# Altium footprint library r2512.PcbLib: 1 footprints
Each footprint in its own frame and in the unit in brackets; x right, y up, seen from the top. Pads: shape width x height; smd on the part's side, far side on the other; paste and mask are expansions set on the pad; w line width, h text height; cw(c..) or ccw(c..) is an arc to the next point about the centre after c.
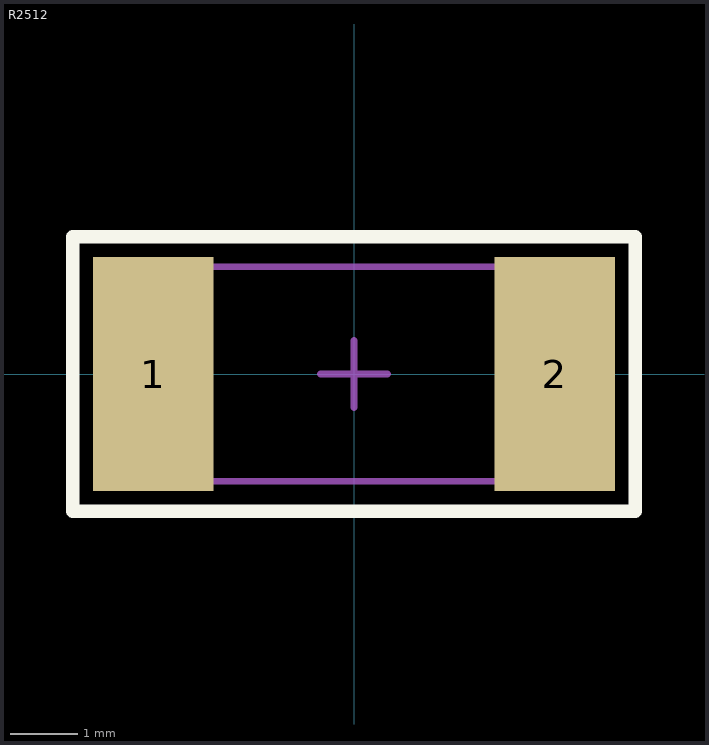
[diagram p0: the footprint, top view; thin cyan lines are the x and y axes]

## R2512 [mm] "Chip Resistor, 2-Leads, Body 6,60x3,20mm, IPC Medium Density"
height 0.7
pads (2):
  rect 1.8x3.5 smd: 1(-3,0) 2(3,0)
Top Overlay:
  lines w0.2: -4.2,-2.05 -4.2,2.05 4.2,2.05 4.2,-2.05 -4.2,-2.05
Top Comment:
  text ".Comment" at 1.2,2.3 h1.2
Top Designator:
  text ".Designator" at -0.5,2.3 h1.2
Top Component Outline:
  lines w0.1: -3.2,-1.6 3.2,-1.6 3.2,1.6 -3.2,1.6 -3.2,-1.6
Top Courtyard (Mech15):
  lines w0.05: -4.2,-2.1 -4.2,2.1 4.2,2.1 4.2,-2.1 -4.2,-2.1
  lines w0.1: -0.5,0 0.5,0 ; 0,-0.5 0,0.5
3D body "R2512.STEP": height 0.6, standoff 0, extent -3.15,-1.58 3.15,1.58